# EAGLE library part LM13700 (library ic)
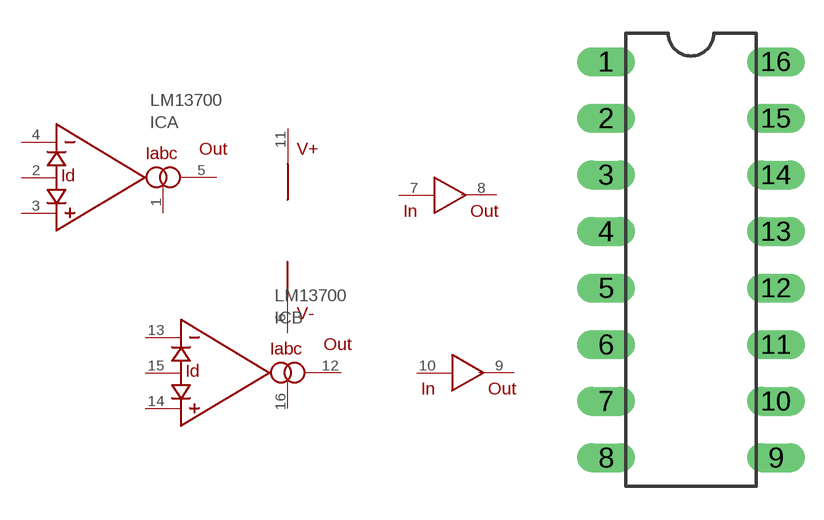
[diagram p36: symbol with the pads of DIL16; footprint DIL16]

Designator prefix IC; gates A=SYNTHDIY_OTA_WD_N G$5=SYNTHDIY_OTA_WD_PWR 3=SYNTHDIY_OTA_BUF B=SYNTHDIY_OTA_WD_N 4=SYNTHDIY_OTA_BUF

## LM13700  [DIL16]
1  A:IABC
2  A:ID
3  A:+IN
4  A:-IN
5  A:OUT
6  G$5:V-
7  3:IN
8  3:OUT
9  4:OUT
10  4:IN
11  G$5:V+
12  B:OUT
13  B:-IN
14  B:+IN
15  B:ID
16  B:IABC

## Footprint DIL16 (pad centres in mm)
drill 0.8 pad 1.27 long: 1 -3.81,8.89; 2 -3.81,6.35; 3 -3.81,3.81; 4 -3.81,1.27; 5 -3.81,-1.27; 6 -3.81,-3.81; 7 -3.81,-6.35; 8 -3.81,-8.89; 9 3.81,-8.89; 10 3.81,-6.35; 11 3.81,-3.81; 12 3.81,-1.27; 13 3.81,1.27; 14 3.81,3.81; 15 3.81,6.35; 16 3.81,8.89